# EAGLE library part PIC16F6X8A-I (library microchip-special)
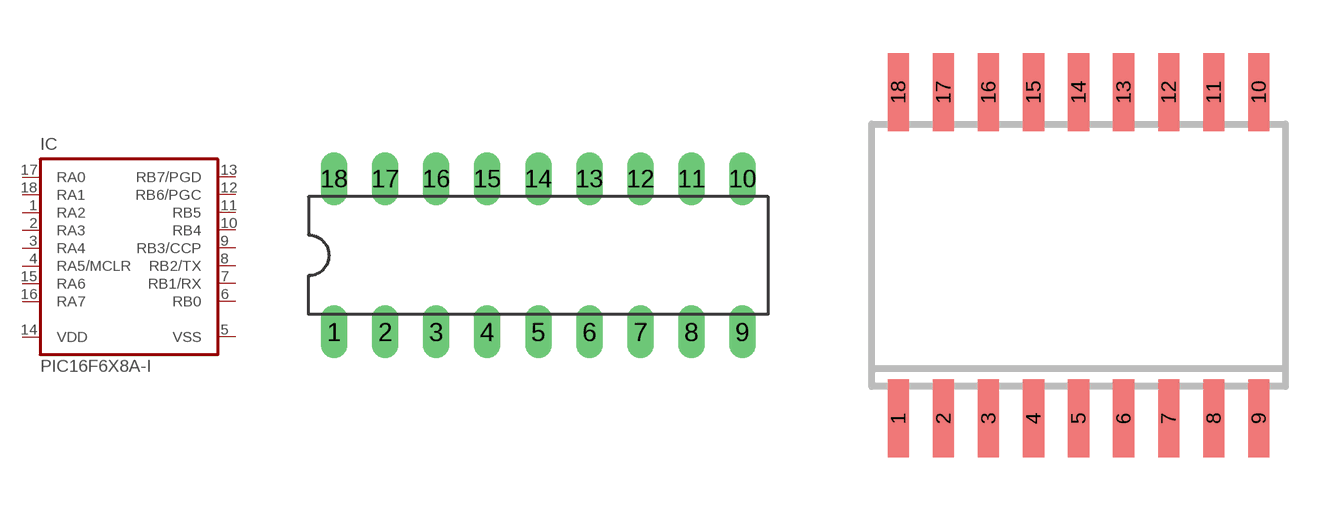
[diagram p4: symbol with the pads of DIL18; footprints DIL18, SO-18DW]

Designator prefix IC

## PIC16F6X8A-I/P  [DIL18]
1  RA2
2  RA3
3  RA4
4  RA5/MCLR  in
5  VSS  pwr
6  RB0
7  RB1/RX
8  RB2/TX
9  RB3/CCP
10  RB4
11  RB5
12  RB6/PGC
13  RB7/PGD
14  VDD  pwr
15  RA6
16  RA7
17  RA0
18  RA1

## PIC16F6X8A-I/SN  [SO-18DW]
Pads as for DIL18

## Footprint DIL18 (pad centres in mm)
Dual In Line Package
drill 0.813 long: 1 -10.16,-3.81; 2 -7.62,-3.81; 3 -5.08,-3.81; 4 -2.54,-3.81; 5 0,-3.81; 6 2.54,-3.81; 7 5.08,-3.81; 8 7.62,-3.81; 9 10.16,-3.81; 10 10.16,3.81; 11 7.62,3.81; 12 5.08,3.81; 13 2.54,3.81; 14 0,3.81; 15 -2.54,3.81; 16 -5.08,3.81; 17 -7.62,3.81; 18 -10.16,3.81

## Footprint SO-18DW (pad centres in mm)
Small Outline Integrated Circuit wide
smd 0.6 x 2.2: 1 -5.08,-4.6; 2 -3.81,-4.6; 3 -2.54,-4.6; 4 -1.27,-4.6; 5 0,-4.6; 6 1.27,-4.6; 7 2.54,-4.6; 8 3.81,-4.6; 9 5.08,-4.6; 10 5.08,4.6; 11 3.81,4.6; 12 2.54,4.6; 13 1.27,4.6; 14 0,4.6; 15 -1.27,4.6; 16 -2.54,4.6; 17 -3.81,4.6; 18 -5.08,4.6